# Altium footprint library 2020-11-28_22-37-04.PcbLib: 3 footprints
Each footprint in its own frame and in the unit in brackets; x right, y up, seen from the top. Pads: shape width x height; smd on the part's side, far side on the other; paste and mask are expansions set on the pad; w line width, h text height; cw(c..) or ccw(c..) is an arc to the next point about the centre after c.
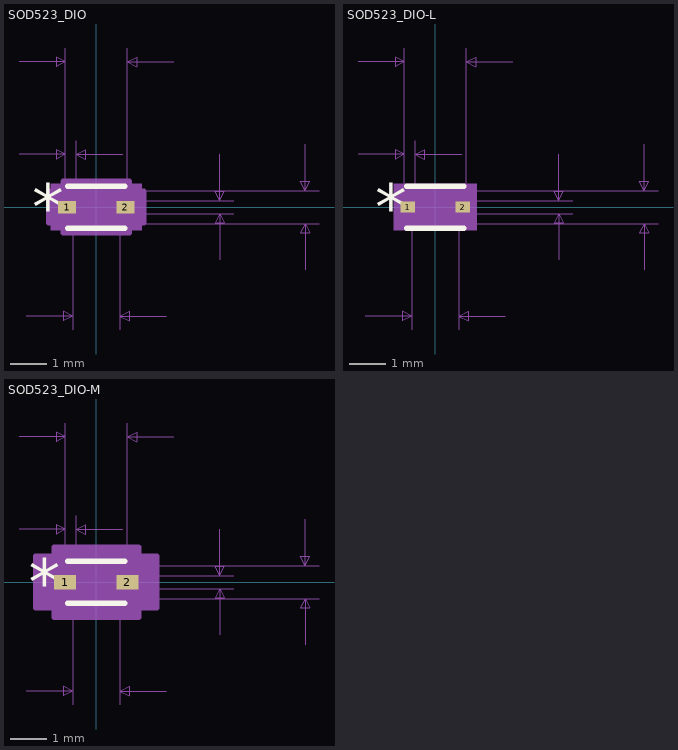
[diagram p0: the footprints below, top view; thin cyan lines are the x and y axes]

## SOD523_DIO [mm]
pads (2):
  rect 0.503x0.35 smd paste+0 mask+0: 1(-0.802,0) 2(0.802,0)
Top Overlay:
  lines w0.152: -0.777,-0.577 0.777,-0.577 ; -0.777,0.577 0.777,0.577
  text "*" at -1.752,-0.635 h1.27
Mechanical 5:
  region: 1.244,-0.64 -1.244,-0.64 -1.244,0.64 1.244,0.64
Mechanical 7:
  lines w0.025: -2.12,1.445 -0.85,1.445 ; -2.12,3.985 -0.85,3.985 ; -1.92,-2.99 -0.65,-2.99 ; -0.85,1.826 -0.85,0 -0.85,4.366 ; -0.65,-3.371 -0.65,0 ; -0.55,0 -0.55,1.826 ; 0,-0.45 6.111,-0.45 ; 0,0.45 6.111,0.45 ; 0.65,-3.371 0.65,0 ; 0.72,1.445 -0.55,1.445 ; 0.85,-0.175 3.771,-0.175 ; 0.85,0 0.85,4.366 ; 0.85,0.175 3.771,0.175 ; 1.92,-2.99 0.65,-2.99 ; 2.12,3.985 0.85,3.985 ; 3.39,-1.445 3.39,-0.175 ; 3.39,1.445 3.39,0.175 ; 5.73,-1.72 5.73,-0.45 ; 5.73,1.72 5.73,0.45 ; -0.85,1.445 -1.104,1.572 -1.104,1.318 -0.85,1.445 ; -0.85,3.985 -1.104,4.112 -1.104,3.858 -0.85,3.985 ; -0.65,-2.99 -0.904,-2.863 -0.904,-3.117 -0.65,-2.99 ; -0.55,1.445 -0.296,1.572 -0.296,1.318 -0.55,1.445 ; 0.65,-2.99 0.904,-2.863 0.904,-3.117 0.65,-2.99 ; 0.85,3.985 1.104,4.112 1.104,3.858 0.85,3.985 ; 3.39,-0.175 3.263,-0.429 3.517,-0.429 3.39,-0.175 ; 3.39,0.175 3.263,0.429 3.517,0.429 3.39,0.175 ; 5.73,-0.45 5.603,-0.704 5.857,-0.704 5.73,-0.45 ; 5.73,0.45 5.603,0.704 5.857,0.704 5.73,0.45
  text "Default Padstyle: RX19p81Y13p78D0T" at -10.795,-8.43 h1.27
  text "Alt 1 Padstyle: OX60Y90D30P" at -8.572,-10.335 h1.27
  text "Alt 2 Padstyle: OX90Y60D30P" at -8.572,-12.24 h1.27
  text "0.067in/1.7mm" at -2.064,4.493 h0.64
  text "0.012in/0.3mm" at -2.764,1.953 h0.64
  text "0.014in/0.35mm" at 3.898,-0.318 h0.64
  text "0.035in/0.9mm" at 6.238,-0.318 h0.64
  text "0.051in/1.3mm" at -2.064,-4.133 h0.64
Mechanical 13:
  lines w0.025: -0.65,-0.225 -0.425,-0.45 ; -0.65,0.225 -0.425,0.45 ; -0.85,-0.175 -0.85,0.175 -0.65,0.175 -0.65,-0.175 -0.85,-0.175 ; -0.65,-0.45 0.65,-0.45 0.65,0.45 -0.65,0.45 -0.65,-0.45 ; 0.65,-0.175 0.65,0.175 0.85,0.175 0.85,-0.175 0.65,-0.175
  text "*" at -0.714,-0.635 h1.27
Mechanical 15:
  region: -0.904,-0.429 -1.307,-0.429 -1.307,0.429 -0.904,0.429 -0.904,0.704 0.904,0.704 0.904,0.429 1.307,0.429 1.307,-0.429 0.904,-0.429 0.904,-0.704 -0.904,-0.704
  lines w0.152: -1.307,-0.429 -1.307,0.429 -0.904,0.429 -0.904,0.704 0.904,0.704 0.904,0.429 1.307,0.429 1.307,-0.429 0.904,-0.429 0.904,-0.704 -0.904,-0.704 -0.904,-0.429 -1.307,-0.429
3D body: height 0.25, standoff 0, extent 0,0 0.254,0.254

## SOD523_DIO-L [mm]
pads (2):
  rect 0.402x0.299 smd paste+0 mask+0: 1(-0.751,0) 2(0.751,0)
Top Overlay:
  lines w0.152: -0.777,-0.577 0.777,-0.577 ; -0.777,0.577 0.777,0.577
  text "*" at -1.65,-0.635 h1.27
Mechanical 5:
  region: 1.142,-0.64 -1.142,-0.64 -1.142,0.64 1.142,0.64
Mechanical 7:
  lines w0.025: -2.12,1.445 -0.85,1.445 ; -2.12,3.985 -0.85,3.985 ; -1.92,-2.99 -0.65,-2.99 ; -0.85,1.826 -0.85,0 -0.85,4.366 ; -0.65,-3.371 -0.65,0 ; -0.55,0 -0.55,1.826 ; 0,-0.45 6.111,-0.45 ; 0,0.45 6.111,0.45 ; 0.65,-3.371 0.65,0 ; 0.72,1.445 -0.55,1.445 ; 0.85,-0.175 3.771,-0.175 ; 0.85,0 0.85,4.366 ; 0.85,0.175 3.771,0.175 ; 1.92,-2.99 0.65,-2.99 ; 2.12,3.985 0.85,3.985 ; 3.39,-1.445 3.39,-0.175 ; 3.39,1.445 3.39,0.175 ; 5.73,-1.72 5.73,-0.45 ; 5.73,1.72 5.73,0.45 ; -0.85,1.445 -1.104,1.572 -1.104,1.318 -0.85,1.445 ; -0.85,3.985 -1.104,4.112 -1.104,3.858 -0.85,3.985 ; -0.65,-2.99 -0.904,-2.863 -0.904,-3.117 -0.65,-2.99 ; -0.55,1.445 -0.296,1.572 -0.296,1.318 -0.55,1.445 ; 0.65,-2.99 0.904,-2.863 0.904,-3.117 0.65,-2.99 ; 0.85,3.985 1.104,4.112 1.104,3.858 0.85,3.985 ; 3.39,-0.175 3.263,-0.429 3.517,-0.429 3.39,-0.175 ; 3.39,0.175 3.263,0.429 3.517,0.429 3.39,0.175 ; 5.73,-0.45 5.603,-0.704 5.857,-0.704 5.73,-0.45 ; 5.73,0.45 5.603,0.704 5.857,0.704 5.73,0.45
  text "Default Padstyle: RX15p81Y11p78D0T" at -10.795,-8.405 h1.27
  text "Alt 1 Padstyle: OX60Y90D30P" at -8.572,-10.31 h1.27
  text "Alt 2 Padstyle: OX90Y60D30P" at -8.572,-12.215 h1.27
  text "0.067in/1.7mm" at -2.064,4.493 h0.64
  text "0.012in/0.3mm" at -2.764,1.953 h0.64
  text "0.014in/0.35mm" at 3.898,-0.318 h0.64
  text "0.035in/0.9mm" at 6.238,-0.318 h0.64
  text "0.051in/1.3mm" at -2.064,-4.133 h0.64
Mechanical 13:
  lines w0.025: -0.65,-0.225 -0.425,-0.45 ; -0.65,0.225 -0.425,0.45 ; -0.85,-0.175 -0.85,0.175 -0.65,0.175 -0.65,-0.175 -0.85,-0.175 ; -0.65,-0.45 0.65,-0.45 0.65,0.45 -0.65,0.45 -0.65,-0.45 ; 0.65,-0.175 0.65,0.175 0.85,0.175 0.85,-0.175 0.65,-0.175
  text "*" at -0.714,-0.635 h1.27
Mechanical 15:
  region: -0.752,-0.251 -1.053,-0.251 -1.053,0.251 -0.752,0.251 -0.752,0.552 0.752,0.552 0.752,0.251 1.053,0.251 1.053,-0.251 0.752,-0.251 0.752,-0.552 -0.752,-0.552
  lines w0.152: -1.053,-0.251 -1.053,0.251 -0.752,0.251 -0.752,0.552 0.752,0.552 0.752,0.251 1.053,0.251 1.053,-0.251 0.752,-0.251 0.752,-0.552 -0.752,-0.552 -0.752,-0.251 -1.053,-0.251
3D body: height 0.25, standoff 0, extent 0,0 0.254,0.254

## SOD523_DIO-M [mm]
pads (2):
  rect 0.605x0.401 smd paste+0 mask+0: 1(-0.852,0) 2(0.852,0)
Top Overlay:
  lines w0.152: -0.777,-0.577 0.777,-0.577 ; -0.777,0.577 0.777,0.577
  text "*" at -1.853,-0.635 h1.27
Mechanical 5:
  region: 1.345,-0.64 -1.345,-0.64 -1.345,0.64 1.345,0.64
Mechanical 7:
  lines w0.025: -2.12,1.445 -0.85,1.445 ; -2.12,3.985 -0.85,3.985 ; -1.92,-2.99 -0.65,-2.99 ; -0.85,1.826 -0.85,0 -0.85,4.366 ; -0.65,-3.371 -0.65,0 ; -0.55,0 -0.55,1.826 ; 0,-0.45 6.111,-0.45 ; 0,0.45 6.111,0.45 ; 0.65,-3.371 0.65,0 ; 0.72,1.445 -0.55,1.445 ; 0.85,-0.175 3.771,-0.175 ; 0.85,0 0.85,4.366 ; 0.85,0.175 3.771,0.175 ; 1.92,-2.99 0.65,-2.99 ; 2.12,3.985 0.85,3.985 ; 3.39,-1.445 3.39,-0.175 ; 3.39,1.445 3.39,0.175 ; 5.73,-1.72 5.73,-0.45 ; 5.73,1.72 5.73,0.45 ; -0.85,1.445 -1.104,1.572 -1.104,1.318 -0.85,1.445 ; -0.85,3.985 -1.104,4.112 -1.104,3.858 -0.85,3.985 ; -0.65,-2.99 -0.904,-2.863 -0.904,-3.117 -0.65,-2.99 ; -0.55,1.445 -0.296,1.572 -0.296,1.318 -0.55,1.445 ; 0.65,-2.99 0.904,-2.863 0.904,-3.117 0.65,-2.99 ; 0.85,3.985 1.104,4.112 1.104,3.858 0.85,3.985 ; 3.39,-0.175 3.263,-0.429 3.517,-0.429 3.39,-0.175 ; 3.39,0.175 3.263,0.429 3.517,0.429 3.39,0.175 ; 5.73,-0.45 5.603,-0.704 5.857,-0.704 5.73,-0.45 ; 5.73,0.45 5.603,0.704 5.857,0.704 5.73,0.45
  text "Default Padstyle: RX23p81Y15p78D0T" at -10.795,-8.455 h1.27
  text "Alt 1 Padstyle: OX60Y90D30P" at -8.572,-10.36 h1.27
  text "Alt 2 Padstyle: OX90Y60D30P" at -8.572,-12.265 h1.27
  text "0.067in/1.7mm" at -2.064,4.493 h0.64
  text "0.012in/0.3mm" at -2.764,1.953 h0.64
  text "0.014in/0.35mm" at 3.898,-0.318 h0.64
  text "0.035in/0.9mm" at 6.238,-0.318 h0.64
  text "0.051in/1.3mm" at -2.064,-4.133 h0.64
Mechanical 13:
  lines w0.025: -0.65,-0.225 -0.425,-0.45 ; -0.65,0.225 -0.425,0.45 ; -0.85,-0.175 -0.85,0.175 -0.65,0.175 -0.65,-0.175 -0.85,-0.175 ; -0.65,-0.45 0.65,-0.45 0.65,0.45 -0.65,0.45 -0.65,-0.45 ; 0.65,-0.175 0.65,0.175 0.85,0.175 0.85,-0.175 0.65,-0.175
  text "*" at -0.714,-0.635 h1.27
Mechanical 15:
  region: -1.158,-0.708 -1.663,-0.708 -1.663,0.708 -1.158,0.708 -1.158,0.958 1.158,0.958 1.158,0.708 1.663,0.708 1.663,-0.708 1.158,-0.708 1.158,-0.958 -1.158,-0.958
  lines w0.152: -1.663,-0.708 -1.663,0.708 -1.158,0.708 -1.158,0.958 1.158,0.958 1.158,0.708 1.663,0.708 1.663,-0.708 1.158,-0.708 1.158,-0.958 -1.158,-0.958 -1.158,-0.708 -1.663,-0.708
3D body: height 0.25, standoff 0, extent 0,0 0.254,0.254